# EAGLE library part KEYBOARD (library crasbe)
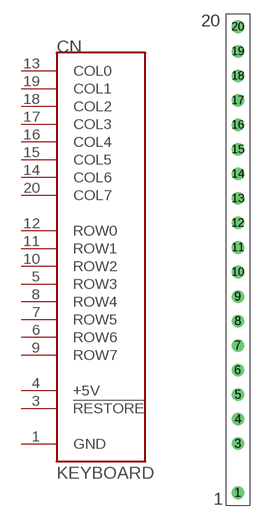
[diagram p18: symbol with the pads of KEYBOARD; footprint KEYBOARD]

Designator prefix CN

## KEYBOARD  [KEYBOARD]
1  GND  pwr
3  !RESTORE
4  +5V  pwr
5  ROW3
6  ROW6
7  ROW5
8  ROW4
9  ROW7
10  ROW2
11  ROW1
12  ROW0
13  COL0
14  COL6
15  COL5
16  COL4
17  COL3
18  COL2
19  COL1
20  COL7

## Footprint KEYBOARD (pad centres in mm)
drill 0.8: 1 0,-10.16; 3 0,-5.08; 4 0,-2.54; 5 0,0; 6 0,2.54; 7 0,5.08; 8 0,7.62; 9 0,10.16; 10 0,12.7; 11 0,15.24; 12 0,17.78; 13 0,20.32; 14 0,22.86; 15 0,25.4; 16 0,27.94; 17 0,30.48; 18 0,33.02; 19 0,35.56; 20 0,38.1